# EAGLE library part TS52001 (library mike-temp)
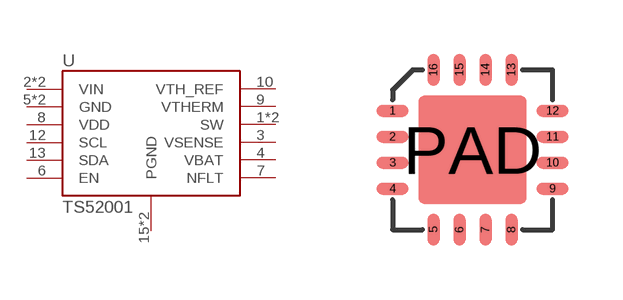
[diagram p41: symbol with the pads of MLPQ16+PAD; footprint MLPQ16+PAD]

Designator prefix U

## TS52001  [MLPQ16+PAD]
1  SW
2  VIN
3  VSENSE
4  VBAT
5  GND
6  EN
7  NFLT  pwr
8  VDD  pwr
9  VTHERM
10  VTH_REF
11  VIN
12  SCL  in
13  SDA
14  SW
15  PGND  pwr
16  PGND  pwr
PAD  GND

## Footprint MLPQ16+PAD (pad centres in mm)
smd 0.8 x 0.3: 1 -2,0.975; 2 -2,0.325; 3 -2,-0.325; 4 -2,-0.975; 9 2,-0.975; 10 2,-0.325; 11 2,0.325; 12 2,0.975
smd 0.3 x 0.8: 5 -0.975,-2; 6 -0.325,-2; 7 0.325,-2; 8 0.975,-2; 13 0.975,2; 14 0.325,2; 15 -0.325,2; 16 -0.975,2
smd 2.7 x 2.7: PAD 0,0